# Altium footprint library Conectores_pines.PcbLib: 4 footprints
Each footprint in its own frame and in the unit in brackets; x right, y up, seen from the top. Pads: shape width x height; smd on the part's side, far side on the other; paste and mask are expansions set on the pad; w line width, h text height; cw(c..) or ccw(c..) is an arc to the next point about the centre after c.
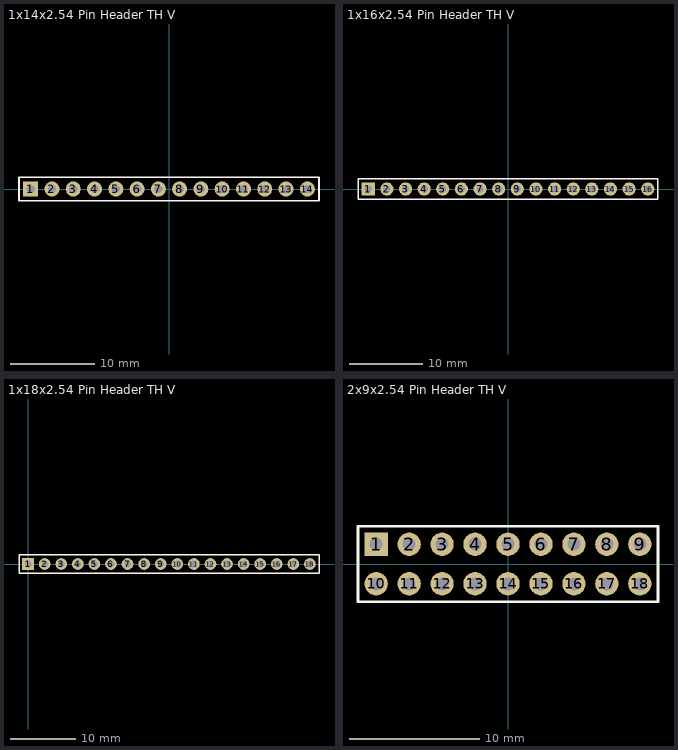
[diagram p0: the footprints below, top view; thin cyan lines are the x and y axes]

## 1x14x2.54 Pin Header TH V [mm] "1x14x2.54 Pin Header TH V"
height 8.54
pads (14):
  rect 1.8x1.8 hole 1: 1(-16.51,0)
  round 1.8 hole 1: 2(-13.97,0) 3(-11.43,0) 4(-8.89,0) 5(-6.35,0) 6(-3.81,0) 7(-1.27,0) 8(1.27,0) 9(3.81,0) 10(6.35,0) 11(8.89,0) 12(11.43,0) 13(13.97,0) 14(16.51,0)
Top Overlay:
  lines w0.2: -17.907,-1.397 -17.907,1.397 17.907,1.397 17.907,-1.397 -17.907,-1.397

## 1x16x2.54 Pin Header TH V [mm] "1x16x2.54 Pin Header TH V"
height 8.54
pads (16):
  rect 1.8x1.8 hole 1: 1(-19.05,0)
  round 1.8 hole 1: 2(-16.51,0) 3(-13.97,0) 4(-11.43,0) 5(-8.89,0) 6(-6.35,0) 7(-3.81,0) 8(-1.27,0) 9(1.27,0) 10(3.81,0) 11(6.35,0) 12(8.89,0) 13(11.43,0) 14(13.97,0) 15(16.51,0) 16(19.05,0)
Top Overlay:
  lines w0.2: -20.447,-1.397 -20.447,1.397 20.447,1.397 20.447,-1.397 -20.447,-1.397

## 1x18x2.54 Pin Header TH V [mm] "1x18x2.54 Pin Header TH V"
height 8.54
pads (18):
  rect 1.8x1.8 hole 1: 1(0,0)
  round 1.8 hole 1: 2(2.54,0) 3(5.08,0) 4(7.62,0) 5(10.16,0) 6(12.7,0) 7(15.24,0) 8(17.78,0) 9(20.32,0) 10(22.86,0) 11(25.4,0) 12(27.94,0) 13(30.48,0) 14(33.02,0) 15(35.56,0) 16(38.1,0) 17(40.64,0) 18(43.18,0)
Top Overlay:
  lines w0.2: -1.397,-1.397 44.577,-1.397 44.577,-0.699 44.577,0.699 44.577,1.397 -1.397,1.397 -1.397,-1.397

## 2x9x2.54 Pin Header TH V [mm] "2x9x2.54 Pin Header TH V"
height 8.54
pads (18):
  rect 1.8x1.8 hole 1: 1(-10.16,1.524)
  round 1.8 hole 1: 2(-7.62,1.524) 3(-5.08,1.524) 4(-2.54,1.524) 5(0,1.524) 6(2.54,1.524) 7(5.08,1.524) 8(7.62,1.524) 9(10.16,1.524) 10(-10.16,-1.524) 11(-7.62,-1.524) 12(-5.08,-1.524) 13(-2.54,-1.524) 14(0,-1.524) 15(2.54,-1.524) 16(5.08,-1.524) 17(7.62,-1.524) 18(10.16,-1.524)
Top Overlay:
  lines w0.2: -11.557,-2.921 11.557,-2.921 11.557,2.921 -11.557,2.921 -11.557,-2.921